# Altium footprint library PCB - CONNECTOR - AMPHENOL - BNC.PCBLIB: 1 footprints
Each footprint in its own frame and in the unit in brackets; x right, y up, seen from the top. Pads: shape width x height; smd on the part's side, far side on the other; paste and mask are expansions set on the pad; w line width, h text height; cw(c..) or ccw(c..) is an arc to the next point about the centre after c.
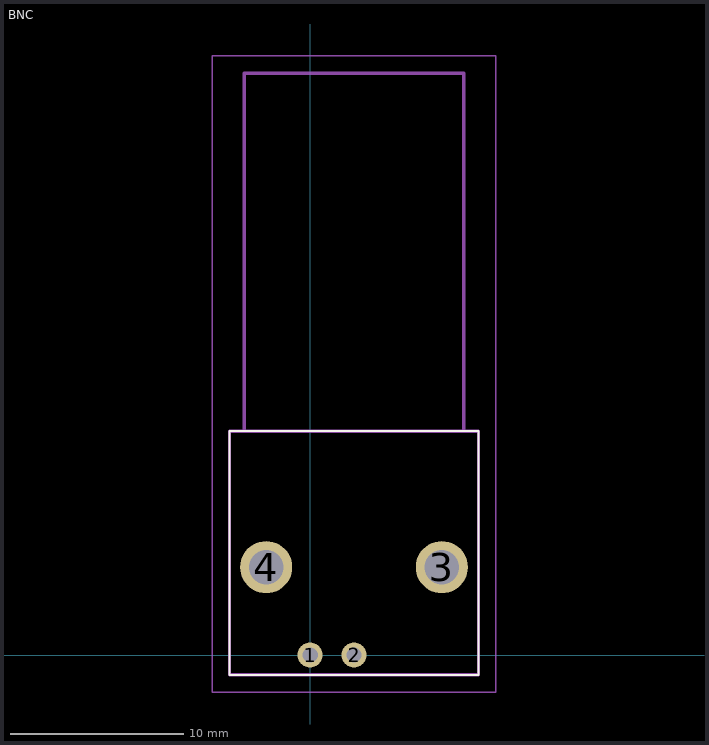
[diagram p0: the footprint, top view; thin cyan lines are the x and y axes]

## BNC [mm]
pads (4):
  round 1.446 hole 0.89: 1(0,0) 2(2.54,0)
  round 3.015 hole 2.01: 3(7.62,5.08) 4(-2.54,5.08)
Top Overlay:
  lines w0.1: -4.66,-1.15 9.74,-1.15 9.74,12.95 -4.66,12.95 -4.66,-1.15
Mechanical 13:
  lines w0.2: -3.81,12.95 -3.81,33.65 8.89,33.65 8.89,12.95 ; -4.66,-1.15 9.74,-1.15 9.74,12.95 -4.66,12.95 -4.66,-1.15
Mechanical 15:
  lines w0.1: -5.66,-2.15 10.74,-2.15 10.74,34.65 -5.66,34.65 -5.66,-2.15